# Altium integrated library Pitch-5.08mm.IntLib: 15 symbols
Pins are listed as number, name and electrical type; pins without a type are passive.

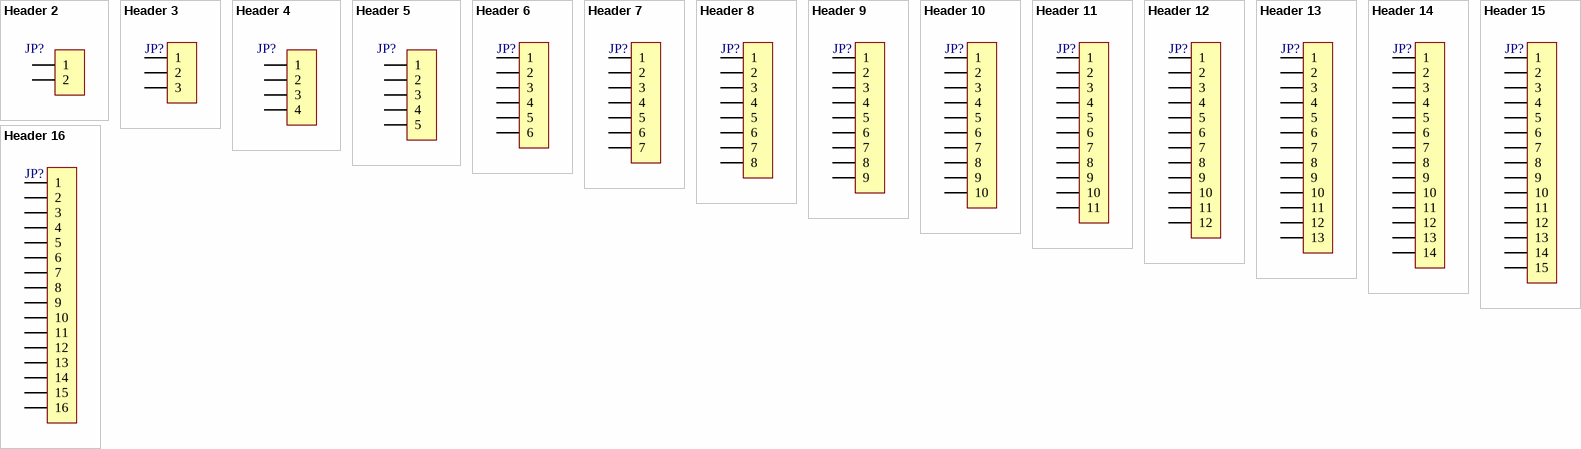
[diagram p0: symbols Header 2 to Header 16]

## Header 2
designator JP?, comment HDR-1X2  (value not drawn)
2P Connector; BOM名称: 2P接插件; 版权归属: 封装库来自淘宝卖家 ID：黄晶宝石; 学习资源: https://shop463601444.taobao.com
footprint KF2EDGK5.08-LI-2P
footprint KF2EDGK5.08-WI-2P
footprint KF128-5.08-2P (Screw Connector, Pitch 5.08mm)
pins: 1, 2

## Header 3
designator JP?, comment HDR-1X3  (value not drawn)
3P Connector; BOM名称: 3P接插件; 版权归属: 封装库来自淘宝卖家 ID：黄晶宝石; 学习资源: https://shop463601444.taobao.com
footprint KF2EDGK5.08-LI-3P
footprint KF2EDGK5.08-WI-3P
footprint KF128-5.08-3P (Screw Connector, Pitch 5.08mm)
pins: 1, 2, 3

## Header 4
designator JP?, comment HDR-1X4  (value not drawn)
4P Connector; BOM名称: 4P接插件; 版权归属: 封装库来自淘宝卖家 ID：黄晶宝石; 学习资源: https://shop463601444.taobao.com
footprint KF2EDGK5.08-LI-4P
footprint KF2EDGK5.08-WI-4P
footprint KF128-5.08-4P (Screw Connector, Pitch 5.08mm)
pins: 1, 2, 3, 4

## Header 5
designator JP?, comment HDR-1X5  (value not drawn)
5P Connector; BOM名称: 5P接插件; 版权归属: 封装库来自淘宝卖家 ID：黄晶宝石; 学习资源: https://shop463601444.taobao.com
footprint KF2EDGK5.08-LI-5P
footprint KF2EDGK5.08-WI-5P
footprint KF128-5.08-5P (Screw Connector, Pitch 5.08mm)
pins: 1, 2, 3, 4, 5

## Header 6
designator JP?, comment HDR-1X6  (value not drawn)
6P Connector; BOM名称: 6P接插件; 版权归属: 封装库来自淘宝卖家 ID：黄晶宝石; 学习资源: https://shop463601444.taobao.com
footprint KF2EDGK5.08-LI-6P
footprint KF2EDGK5.08-WI-6P
footprint KF128-5.08-6P (Screw Connector, Pitch 5.08mm)
pins: 1, 2, 3, 4, 5, 6

## Header 7
designator JP?, comment HDR-1X7  (value not drawn)
7P Connector; BOM名称: 7P接插件; 版权归属: 封装库来自淘宝卖家 ID：黄晶宝石; 学习资源: https://shop463601444.taobao.com
footprint KF2EDGK5.08-LI-7P
footprint KF2EDGK5.08-WI-7P
footprint KF128-5.08-7P (Screw Connector, Pitch 5.08mm)
pins: 1, 2, 3, 4, 5, 6, 7

## Header 8
designator JP?, comment HDR-1X8  (value not drawn)
8P Connector; BOM名称: 8P接插件; 版权归属: 封装库来自淘宝卖家 ID：黄晶宝石; 学习资源: https://shop463601444.taobao.com
footprint KF2EDGK5.08-LI-8P
footprint KF2EDGK5.08-WI-8P
footprint KF128-5.08-8P (Screw Connector, Pitch 5.08mm)
pins: 1, 2, 3, 4, 5, 6, 7, 8

## Header 9
designator JP?, comment HDR-1X9  (value not drawn)
9P Connector; BOM名称: 9P接插件; 版权归属: 封装库来自淘宝卖家 ID：黄晶宝石; 学习资源: https://shop463601444.taobao.com
footprint KF2EDGK5.08-LI-9P
footprint KF2EDGK5.08-WI-9P
footprint KF128-5.08-9P (Screw Connector, Pitch 5.08mm)
pins: 1, 2, 3, 4, 5, 6, 7, 8, 9

## Header 10
designator JP?, comment HDR-1X10  (value not drawn)
10P Connector; BOM名称: 10P接插件; 版权归属: 封装库来自淘宝卖家 ID：黄晶宝石; 学习资源: https://shop463601444.taobao.com
footprint KF128-5.08-10P (螺钉式接线端子，脚距5.08mm)
footprint KF2EDGK5.08-LI-10P (立插端子)
footprint KF2EDGK5.08-WI-10P (卧插端子)
pins: 1, 2, 3, 4, 5, 6, 7, 8, 9, 10

## Header 11
designator JP?, comment HDR-1X11  (value not drawn)
11P Connector; BOM名称: 11P接插件; 版权归属: 封装库来自淘宝卖家 ID：黄晶宝石; 学习资源: https://shop463601444.taobao.com
footprint KF128-5.08-11P (Screw Connector, Pitch 5.08mm)
footprint KF2EDGK5.08-LI-11P
footprint KF2EDGK5.08-WI-11P
pins: 1, 2, 3, 4, 5, 6, 7, 8, 9, 10, 11

## Header 12
designator JP?, comment HDR-1X12  (value not drawn)
12P Connector; BOM名称: 12P接插件; 版权归属: 封装库来自淘宝卖家 ID：黄晶宝石; 学习资源: https://shop463601444.taobao.com
footprint KF128-5.08-12P (Screw Connector, Pitch 5.08mm)
footprint KF2EDGK5.08-LI-12P
footprint KF2EDGK5.08-WI-12P
pins: 1, 2, 3, 4, 5, 6, 7, 8, 9, 10, 11, 12

## Header 13
designator JP?, comment HDR-1X13  (value not drawn)
13P Connector; BOM名称: 13P接插件; 版权归属: 封装库来自淘宝卖家 ID：黄晶宝石; 学习资源: https://shop463601444.taobao.com
footprint KF128-5.08-13P (Screw Connector, Pitch 5.08mm)
footprint KF2EDGK5.08-LI-13P
footprint KF2EDGK5.08-WI-13P
pins: 1, 2, 3, 4, 5, 6, 7, 8, 9, 10, 11, 12, 13

## Header 14
designator JP?, comment HDR-1X14  (value not drawn)
14P Connector; BOM名称: 14P接插件; 版权归属: 封装库来自淘宝卖家 ID：黄晶宝石; 学习资源: https://shop463601444.taobao.com
footprint KF128-5.08-14P (Screw Connector, Pitch 5.08mm)
footprint KF2EDGK5.08-LI-14P
footprint KF2EDGK5.08-WI-14P
footprint KF2EDGK5.08-WI-15P
pins: 1, 2, 3, 4, 5, 6, 7, 8, 9, 10, 11, 12, 13, 14

## Header 15
designator JP?, comment HDR-1X15  (value not drawn)
15P Connector; BOM名称: 15P接插件; 版权归属: 封装库来自淘宝卖家 ID：黄晶宝石; 学习资源: https://shop463601444.taobao.com
footprint KF128-5.08-15P (Screw Connector, Pitch 5.08mm)
footprint KF2EDGK5.08-LI-15P
footprint KF2EDGK5.08-WI-15P
pins: 1, 2, 3, 4, 5, 6, 7, 8, 9, 10, 11, 12, 13, 14, 15

## Header 16
designator JP?, comment HDR-1X16  (value not drawn)
16P Connector; BOM名称: 16P接插件; 版权归属: 封装库来自淘宝卖家 ID：黄晶宝石; 学习资源: https://shop463601444.taobao.com
footprint KF128-5.08-16P (Screw Connector, Pitch 5.08mm)
pins: 1, 2, 3, 4, 5, 6, 7, 8, 9, 10, 11, 12, 13, 14, 15, 16